# EAGLE library part A4915 (library gen3)
Allegro A4915 3 phase motor control driver with built in hall effect commutation
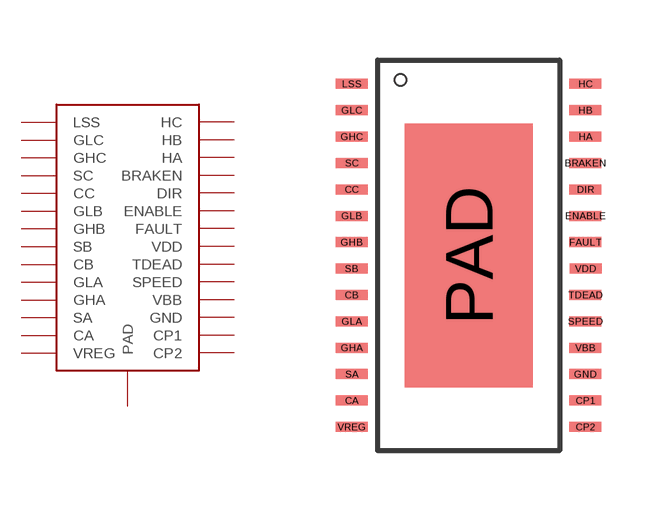
[diagram p0: symbol with the pads of TSSOP28-GROUNDPAD; footprint TSSOP28-GROUNDPAD]

Designator prefix -

## A4915  [TSSOP28-GROUNDPAD]
BRAKEN  BRAKEN
CA  CA
CB  CB
CC  CC
CP1  CP1
CP2  CP2
DIR  DIR
ENABLE  ENABLE
FAULT  FAULT
GHA  GHA
GHB  GHB
GHC  GHC
GLA  GLA
GLB  GLB
GLC  GLC
GND  GND
HA  HA
HB  HB
HC  HC
LSS  LSS
PAD  PAD
SA  SA
SB  SB
SC  SC
SPEED  SPEED
TDEAD  TDEAD
VBB  VBB
VDD  VDD
VREG  VREG

## Footprint TSSOP28-GROUNDPAD (pad centres in mm)
smd 0.8 x 0.25: BRAKEN 2.921,2.317; CA -2.921,-3.627; CB -2.921,-0.985; CC -2.921,1.656; CP1 2.921,-3.627; CP2 2.921,-4.287; DIR 2.921,1.656; ENABLE 2.921,0.996; FAULT 2.921,0.335; GHA -2.921,-2.306; GHB -2.921,0.335; GHC -2.921,2.977; GLA -2.921,-1.646; GLB -2.921,0.996; GLC -2.921,3.637; GND 2.921,-2.967; HA 2.921,2.977; HB 2.921,3.637; HC 2.921,4.298; LSS -2.921,4.298; SA -2.921,-2.967; SB -2.927,-0.325; SC -2.921,2.317; SPEED 2.921,-1.646; TDEAD 2.921,-0.985; VBB 2.921,-2.306; VDD 2.927,-0.325; VREG -2.921,-4.287
smd 3.2 x 6.6: PAD 0,0.005